# Altium schematic symbol library Fleet-Monitor.SCHLIB: 51 symbols
Pins are listed as number, name and electrical type; pins without a type are passive.

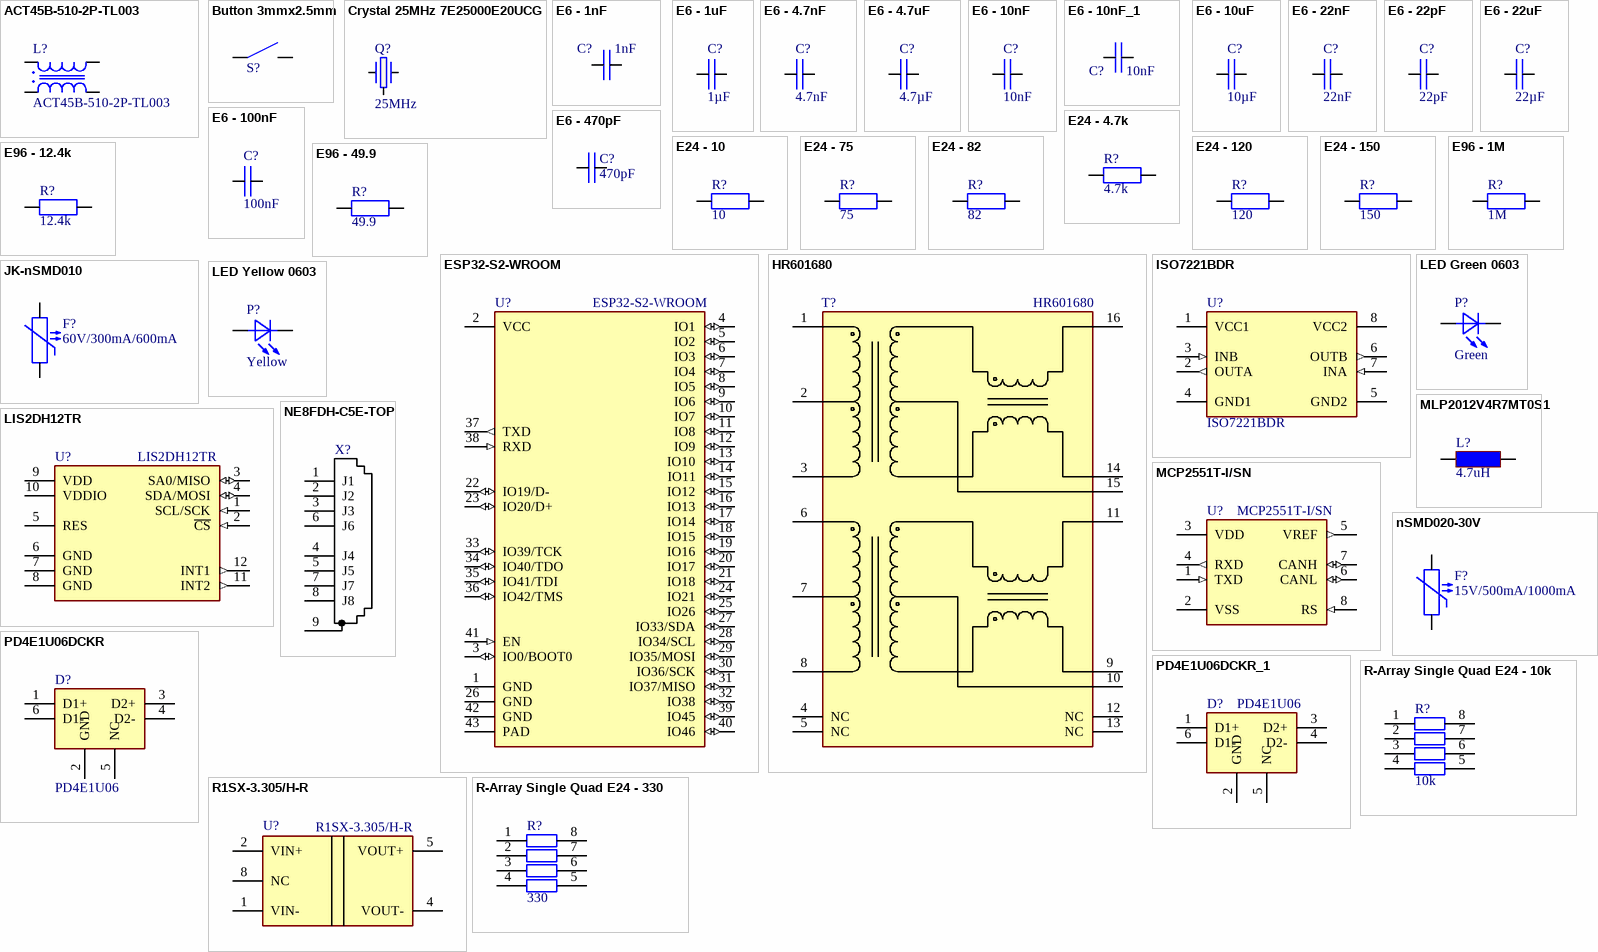
[diagram p0: symbols ACT45B-510-2P-TL003 to R-Array Single Quad E24 - 330]

## ACT45B-510-2P-TL003
designator L?
51uH @ 100kHz 2.8kΩ @ 10MHz 50V 1Ω Signal Line 4532 Common Mode Filters ROHS; Component Value: ACT45B-101-2P-TL003; ComponentLink1Description: Datasheet; ComponentLink1URL: https://datasheet.lcsc.com/lcsc/1811151538_TDK-ACT45B-101-2P-TL003_C88056.pdf; Digikey: 445-3959-1-ND; Farnell: 3407556; JLC-Parts: C88056; Mouser: 810-ACT45B1012PTL003; Unit Price: 0.56; Component Description: Common Mode Filter
footprint SMD Common Mode Choke 4.5x3.2
pins: 1, 2, 3, 4

## Button 3mmx2.5mm
designator S?, comment SMD-Button  (value not drawn)
Button SPST; Component Value: TS-1187A-B-A-B; Component Description: Tactile Switch; Digikey: CKN12221-1-ND; ComponentLink1Description: Datasheet; ComponentLink1URL: https://datasheet.lcsc.com/lcsc/2002271431_XKB-Connectivity-TS-1187A-B-A-B_C318884.pdf; Farnell: 3780596; JLC-Parts: C318884; Mouser: 611-PTS526SK15SMR2L; Unit Price: 0.02
footprint SMD Button 5.2x5.2
pins: 1, 2

## Crystal 25MHz 7E25000E20UCG
designator Q?, comment 25MHz
SMD Crystal Resonators 25MHz 10ppm -40℃~85℃; ComponentLink1Description: Datasheet; ComponentLink1URL: https://datasheet.lcsc.com/lcsc/1810170940_SJK-SHENZHEN-CRYSTAL-TECH-7E25000E20UCG_C252264.pdf; Component Value: 25MHz; Digikey: XC3050CT-ND; Farnell: 3649710; JLC-Parts: C252264; Mouser: 520-250-10-36B-CTNT; Unit Price: 0.14; Component Description: Crystal
footprint SMD Crystal 2520
pins: 1, 2, 3 (power)

## E6 - 1nF
designator C?, comment 1nF
SMD Ceramic Capacitor E6; Component Value: 1nF 3kV; Component Description: Multilayer Ceramic Capacitors MLCC; ComponentLink1Description: Datasheet; ComponentLink1URL: https://datasheet.lcsc.com/lcsc/1912111437_Johanson-Dielectrics-302R29W102KV4E_C173224.pdf; Digikey: 709-1047-1-ND; Farnell: 1886070; JLC-Parts: C173224; Mouser: 605-302R29W102KV4E; Unit Price: 0.06
footprint SMD Keramikkondensator 0402
footprint SMD Keramikkondensator 0603
footprint SMD Keramikkondensator 0805
footprint SMD Keramikkondensator 1206
footprint SMD Keramikkondensator 1210 (Chip Resistor; Body 3.2 x 1.6 mm (LxW typ))
footprint SMD Keramikkondensator 1812
footprint SMD Keramikkondensator 2211
footprint SMD Keramikkondensator 2220
footprint SMD Keramikkondesnator 2220
footprint SMD Keramikkondensator 1808
pins: 1, 2
1 alternate drawing of the same symbol

## E6 - 1uF
designator C?, comment 1µF
SMD Ceramic Capacitor E6; Component Value: 1µF 50V; Component Description: Multilayer Ceramic Capacitors MLCC; ComponentLink1Description: Datasheet; ComponentLink1URL: https://datasheet.lcsc.com/lcsc/1810261812_Samsung-Electro-Mechanics-CL10A105KB8NNNC_C15849.pdf; Digikey: 1276-1860-1-ND; Farnell: 3013383; JLC-Parts: C15849; Mouser: 187-CL10A105KB8NNNC; Unit Price: 0.01
footprint SMD Keramikkondensator 0402
footprint SMD Keramikkondensator 0603
footprint SMD Keramikkondensator 0805
footprint SMD Keramikkondensator 1206
footprint SMD Keramikkondensator 1210 (Chip Resistor; Body 3.2 x 1.6 mm (LxW typ))
footprint SMD Keramikkondensator 1812
footprint SMD Keramikkondensator 2211
footprint SMD Keramikkondensator 2220
footprint SMD Keramikkondesnator 2220
pins: 1, 2
1 alternate drawing of the same symbol

## E6 - 4.7nF
designator C?, comment 4.7nF
SMD Ceramic Capacitor E6; Component Value: 4.7nF 50V; Component Description: Multilayer Ceramic Capacitors MLCC; ComponentLink1Description: Datasheet; ComponentLink1URL: https://datasheet.lcsc.com/lcsc/1811061811_FH-Guangdong-Fenghua-Advanced-Tech-0603B472K500NT_C53987.pdf; Digikey: 478-10355-1-ND; Farnell: 2332650; JLC-Parts: C53987; Mouser: 581-06035C472JAT2A; Unit Price: 0.01
footprint SMD Keramikkondensator 0402
footprint SMD Keramikkondensator 0603
footprint SMD Keramikkondensator 0805
footprint SMD Keramikkondensator 1206
footprint SMD Keramikkondensator 1210 (Chip Resistor; Body 3.2 x 1.6 mm (LxW typ))
footprint SMD Keramikkondensator 1812
footprint SMD Keramikkondensator 2211
footprint SMD Keramikkondensator 2220
footprint SMD Keramikkondesnator 2220
pins: 1, 2
1 alternate drawing of the same symbol

## E6 - 4.7uF
designator C?, comment 4.7µF
SMD Ceramic Capacitor E6; Component Value: 4.7µF 16V; Component Description: Multilayer Ceramic Capacitors MLCC; ComponentLink1Description: Datasheet; ComponentLink1URL: https://datasheet.lcsc.com/lcsc/1810261514_Samsung-Electro-Mechanics-CL10A475KO8NNNC_C19666.pdf; Digikey: 1276-1784-1-ND; Farnell: 3013397; JLC-Parts: C19666; Mouser: 187-CL10A475KO8NNNC; Unit Price: 0.01
footprint SMD Keramikkondensator 0402
footprint SMD Keramikkondensator 0603
footprint SMD Keramikkondensator 0805
footprint SMD Keramikkondensator 1206
footprint SMD Keramikkondensator 1210 (Chip Resistor; Body 3.2 x 1.6 mm (LxW typ))
footprint SMD Keramikkondensator 1812
footprint SMD Keramikkondensator 2211
footprint SMD Keramikkondensator 2220
footprint SMD Keramikkondesnator 2220
pins: 1, 2
1 alternate drawing of the same symbol

## E6 - 10nF
designator C?, comment 10nF
SMD Ceramic Capacitor E6; Component Value: 10nF 50V; Component Description: Multilayer Ceramic Capacitors MLCC; ComponentLink1Description: Datasheet; ComponentLink1URL: https://datasheet.lcsc.com/lcsc/2102081402_FH-Guangdong-Fenghua-Advanced-Tech-0603B103K500NT_C57112.pdf; Digikey: 478-3700-1-ND; Farnell: 1833876; JLC-Parts: C57112; Mouser: 581-06031C103J; Unit Price: 0.01
footprint SMD Keramikkondensator 0402
footprint SMD Keramikkondensator 0603
footprint SMD Keramikkondensator 0805
footprint SMD Keramikkondensator 1206
footprint SMD Keramikkondensator 1210 (Chip Resistor; Body 3.2 x 1.6 mm (LxW typ))
footprint SMD Keramikkondensator 1812
footprint SMD Keramikkondensator 2211
footprint SMD Keramikkondensator 2220
footprint SMD Keramikkondesnator 2220
pins: 1, 2
1 alternate drawing of the same symbol

## E6 - 10nF_1
designator C?, comment 10nF
SMD Ceramic Capacitor E6; Component Value: 10nF 50V; Component Description: Multilayer Ceramic Capacitors MLCC; ComponentLink1Description: Datasheet; ComponentLink1URL: https://datasheet.lcsc.com/lcsc/2102081402_FH-Guangdong-Fenghua-Advanced-Tech-0603B103K500NT_C57112.pdf; Digikey: 478-3700-1-ND; Farnell: 1833876; JLC-Parts: C57112; Mouser: 581-06031C103J; Unit Price: 0.01
footprint SMD Keramikkondensator 0402
footprint SMD Keramikkondensator 0603
footprint SMD Keramikkondensator 0805
footprint SMD Keramikkondensator 1206
footprint SMD Keramikkondensator 1210 (Chip Resistor; Body 3.2 x 1.6 mm (LxW typ))
footprint SMD Keramikkondensator 1812
footprint SMD Keramikkondensator 2211
footprint SMD Keramikkondensator 2220
footprint SMD Keramikkondesnator 2220
pins: 1, 2
1 alternate drawing of the same symbol

## E6 - 10uF
designator C?, comment 10µF
SMD Ceramic Capacitor E6; Component Value: 10µF 50V; Component Description: Multilayer Ceramic Capacitors MLCC; ComponentLink1Description: Datasheet; ComponentLink1URL: https://datasheet.lcsc.com/lcsc/2004251506_Murata-Electronics-GRM21BR61H106KE43L_C440198.pdf; Digikey: 490-18663-1-ND; Farnell: 3790440; JLC-Parts: C440198; Mouser: 81-GRM21BR61H106KE3L; Unit Price: 0.13
footprint SMD Keramikkondensator 0402
footprint SMD Keramikkondensator 0603
footprint SMD Keramikkondensator 0805
footprint SMD Keramikkondensator 1206
footprint SMD Keramikkondensator 1210 (Chip Resistor; Body 3.2 x 1.6 mm (LxW typ))
footprint SMD Keramikkondensator 1812
footprint SMD Keramikkondensator 2211
footprint SMD Keramikkondensator 2220
footprint SMD Keramikkondesnator 2220
pins: 1, 2
1 alternate drawing of the same symbol

## E6 - 22nF
designator C?, comment 22nF
SMD Ceramic Capacitor E6; Component Value: 22nF 50V; Component Description: Multilayer Ceramic Capacitors MLCC; ComponentLink1Description: Datasheet; ComponentLink1URL: https://datasheet.lcsc.com/lcsc/1811101610_Samsung-Electro-Mechanics-CL10B223KB8NNNC_C21122.pdf; Digikey: 1276-1104-1-ND; Farnell: 3013425; JLC-Parts: C21122; Mouser: 187-CL10B223KB8NNNC; Unit Price: 0.01
footprint SMD Keramikkondensator 0402
footprint SMD Keramikkondensator 0603
footprint SMD Keramikkondensator 0805
footprint SMD Keramikkondensator 1206
footprint SMD Keramikkondensator 1210 (Chip Resistor; Body 3.2 x 1.6 mm (LxW typ))
footprint SMD Keramikkondensator 1812
footprint SMD Keramikkondensator 2211
footprint SMD Keramikkondensator 2220
footprint SMD Keramikkondesnator 2220
pins: 1, 2
1 alternate drawing of the same symbol

## E6 - 22pF
designator C?, comment 22pF
SMD Ceramic Capacitor E6; Component Value: 22pF 50V; Component Description: Multilayer Ceramic Capacitors MLCC; ComponentLink1Description: Datasheet; ComponentLink1URL: https://datasheet.lcsc.com/lcsc/1810121815_Samsung-Electro-Mechanics-CL10C220JB8NNNC_C1653.pdf; Digikey: 1276-1023-1-ND; Farnell: 2332643; JLC-Parts: C1653; Mouser: 187-CL10C220JB8NNNC; Unit Price: 0.01
footprint SMD Keramikkondensator 0402
footprint SMD Keramikkondensator 0603
footprint SMD Keramikkondensator 0805
footprint SMD Keramikkondensator 1206
footprint SMD Keramikkondensator 1210 (Chip Resistor; Body 3.2 x 1.6 mm (LxW typ))
footprint SMD Keramikkondensator 1812
footprint SMD Keramikkondensator 2211
footprint SMD Keramikkondensator 2220
footprint SMD Keramikkondesnator 2220
pins: 1, 2
1 alternate drawing of the same symbol

## E6 - 22uF
designator C?, comment 22µF
SMD Ceramic Capacitor E6; Component Value: 22µF 25V; Component Description: Multilayer Ceramic Capacitors MLCC; ComponentLink1Description: Datasheet; ComponentLink1URL: https://datasheet.lcsc.com/lcsc/1811151152_Samsung-Electro-Mechanics-CL21A226MAQNNNE_C45783.pdf; Digikey: 1276-2908-1-ND; Farnell: 3013459; JLC-Parts: C45783; Mouser: 187-CL21A226MAQNNNE; Unit Price: 0.04
footprint SMD Keramikkondensator 0402
footprint SMD Keramikkondensator 0603
footprint SMD Keramikkondensator 0805
footprint SMD Keramikkondensator 1206
footprint SMD Keramikkondensator 1210 (Chip Resistor; Body 3.2 x 1.6 mm (LxW typ))
footprint SMD Keramikkondensator 1812
footprint SMD Keramikkondensator 2211
footprint SMD Keramikkondensator 2220
footprint SMD Keramikkondesnator 2220
pins: 1, 2
1 alternate drawing of the same symbol

## E6 - 100nF
designator C?, comment 100nF
SMD Ceramic Capacitor E6; Component Value: 100nF 50V; Component Description: Multilayer Ceramic Capacitors MLCC; ComponentLink1Description: Datasheet; ComponentLink1URL: https://datasheet.lcsc.com/lcsc/1809301912_YAGEO-CC0603KRX7R9BB104_C14663.pdf; Digikey: 445-6899-1-ND; Farnell: 2210822; JLC-Parts: C14663; Mouser: 810-CGA2B3X7R1H104K; Unit Price: 0.01
footprint SMD Keramikkondensator 0402
footprint SMD Keramikkondensator 0603
footprint SMD Keramikkondensator 0805
footprint SMD Keramikkondensator 1206
footprint SMD Keramikkondensator 1210 (Chip Resistor; Body 3.2 x 1.6 mm (LxW typ))
footprint SMD Keramikkondensator 1812
footprint SMD Keramikkondensator 2211
footprint SMD Keramikkondensator 2220
footprint SMD Keramikkondesnator 2220
pins: 1, 2
1 alternate drawing of the same symbol

## E6 - 470pF
designator C?, comment 470pF
SMD Ceramic Capacitor E6; Component Value: 470pF 3kV; Component Description: Multilayer Ceramic Capacitors MLCC; ComponentLink1Description: Datasheet; ComponentLink1URL: https://datasheet.lcsc.com/lcsc/1810201242_IHHEC-HOLY-STONE-ENTERPRISE-CO.,-LTD-C1808X471K302T_C106130.pdf; Digikey: 732-12100-1-ND; Farnell: 2812607; JLC-Parts: C106130; Mouser: 710-885342210003; Unit Price: 0.11
footprint SMD Keramikkondensator 0402
footprint SMD Keramikkondensator 0603
footprint SMD Keramikkondensator 0805
footprint SMD Keramikkondensator 1206
footprint SMD Keramikkondensator 1210 (Chip Resistor; Body 3.2 x 1.6 mm (LxW typ))
footprint SMD Keramikkondensator 1812
footprint SMD Keramikkondensator 2211
footprint SMD Keramikkondensator 2220
footprint SMD Keramikkondesnator 2220
footprint SMD Keramikkondensator 1808
pins: 1, 2
1 alternate drawing of the same symbol

## E24 - 4.7k
designator R?, comment 4.7k
SMD Chip Resistor E24; Component Value: 4.7k (75V, 100mW, 1%); ComponentLink1Description: Datasheet; ComponentLink1URL: https://datasheet.lcsc.com/lcsc/1810200710_UNI-ROYAL-Uniroyal-Elec-0603WAF4701T5E_C23162.pdf; Digikey: P4.70KHCT-ND; Farnell: 2303181; JLC-Parts: C23162; Mouser: 667-ERJ-3EKF4701V; Unit Price: 0.01; Component Description: Chip Resistor
footprint SMD Widerstand 0402
footprint SMD Widerstand 0603
footprint SMD Widerstand 0805
footprint SMD Widerstand 1206
pins: 1, 2
1 alternate drawing of the same symbol

## E24 - 10
designator R?, comment 10
SMD Chip Resistor E24; Component Value: 10 (75V, 100mW, 1%); ComponentLink1Description: Datasheet; ComponentLink1URL: https://datasheet.lcsc.com/lcsc/1810200710_UNI-ROYAL-Uniroyal-Elec-0603WAF4701T5E_C23162.pdf; Digikey: P10.0HCT-ND; Farnell: 2302958; JLC-Parts: C22859; Mouser: 667-ERJ-3EKF10R0V; Unit Price: 0.01; Component Description: Chip Resistor
footprint SMD Widerstand 0402
footprint SMD Widerstand 0603
footprint SMD Widerstand 0805
footprint SMD Widerstand 1206
pins: 1, 2
1 alternate drawing of the same symbol

## E24 - 75
designator R?, comment 75
SMD Chip Resistor E24; Component Value: 75 (75V, 100mW, 1%); ComponentLink1Description: Datasheet; ComponentLink1URL: https://datasheet.lcsc.com/lcsc/1810200710_UNI-ROYAL-Uniroyal-Elec-0603WAF4701T5E_C23162.pdf; Digikey: P75.0HCT-ND; Farnell: 2059282; JLC-Parts: C4275; Mouser: 667-ERJ-3EKF75R0V; Unit Price: 0.01; Component Description: Chip Resistor
footprint SMD Widerstand 0402
footprint SMD Widerstand 0603
footprint SMD Widerstand 0805
footprint SMD Widerstand 1206
pins: 1, 2
1 alternate drawing of the same symbol

## E24 - 82
designator R?, comment 82
SMD Chip Resistor E24; Component Value: 82 (75V, 100mW, 1%); ComponentLink1Description: Datasheet; ComponentLink1URL: https://datasheet.lcsc.com/lcsc/1810200710_UNI-ROYAL-Uniroyal-Elec-0603WAF4701T5E_C23162.pdf; Digikey: P82.0HCT-ND; Farnell: 2303052; JLC-Parts: C23255; Mouser: 667-ERJ-3EKF82R0V; Unit Price: 0.01; Component Description: Chip Resistor
footprint SMD Widerstand 0402
footprint SMD Widerstand 0603
footprint SMD Widerstand 0805
footprint SMD Widerstand 1206
pins: 1, 2
1 alternate drawing of the same symbol

## E24 - 120
designator R?, comment 120
SMD Chip Resistor E24; Component Value: 120 (75V, 100mW, 1%); ComponentLink1Description: Datasheet; ComponentLink1URL: https://datasheet.lcsc.com/lcsc/1810200710_UNI-ROYAL-Uniroyal-Elec-0603WAF4701T5E_C23162.pdf; Digikey: P120HCT-ND; Farnell: 2303067; JLC-Parts: C22787; Mouser: 667-ERJ-3EKF1200V; Unit Price: 0.01; Component Description: Chip Resistor
footprint SMD Widerstand 0402
footprint SMD Widerstand 0603
footprint SMD Widerstand 0805
footprint SMD Widerstand 1206
pins: 1, 2
1 alternate drawing of the same symbol

## E24 - 150
designator R?, comment 150
SMD Chip Resistor E24; Component Value: 150 (75V, 100mW, 1%); ComponentLink1Description: Datasheet; ComponentLink1URL: https://datasheet.lcsc.com/lcsc/1810200710_UNI-ROYAL-Uniroyal-Elec-0603WAF4701T5E_C23162.pdf; Digikey: P150HCT-ND; Farnell: 2303076; JLC-Parts: C22808; Mouser: 667-ERJ-3EKF1500V; Unit Price: 0.01; Component Description: Chip Resistor
footprint SMD Widerstand 0402
footprint SMD Widerstand 0603
footprint SMD Widerstand 0805
footprint SMD Widerstand 1206
pins: 1, 2
1 alternate drawing of the same symbol

## E96 - 1M
designator R?, comment 1M
SMD Chip Resistor E24; Component Value: 1M (75V, 100mW, 1%); ComponentLink1Description: Datasheet; ComponentLink1URL: https://datasheet.lcsc.com/lcsc/1810200710_UNI-ROYAL-Uniroyal-Elec-0603WAF4701T5E_C23162.pdf; Digikey: P1.00MHCT-ND; Farnell: 2303325; JLC-Parts: C22935; Mouser: 667-ERJ-3EKF1004V; Unit Price: 0.01; Component Description: Chip Resistor
footprint SMD Widerstand 0402
footprint SMD Widerstand 0603
footprint SMD Widerstand 0805
footprint SMD Widerstand 1206
pins: 1, 2
1 alternate drawing of the same symbol

## E96 - 12.4k
designator R?, comment 12.4k
SMD Chip Resistor E96; Component Value: 12.4k (75V, 100mW, 1%); ComponentLink1Description: Datasheet; ComponentLink1URL: https://datasheet.lcsc.com/lcsc/1810170234_PANASONIC-ERJ3EKF1242V_C194071.pdf; Digikey: P12.4KHCT-ND; Farnell: 2059414; JLC-Parts: C194071; Mouser: 667-ERJ-3EKF1242V; Unit Price: 0.01; Component Description: Chip Resistor
footprint SMD Widerstand 0402
footprint SMD Widerstand 0603
footprint SMD Widerstand 0805
footprint SMD Widerstand 1206
pins: 1, 2
1 alternate drawing of the same symbol

## E96 - 49.9
designator R?, comment 49.9
SMD Chip Resistor E96; Component Value: 49.9 (75V, 100mW, 1%); ComponentLink1Description: Datasheet; ComponentLink1URL: https://datasheet.lcsc.com/lcsc/1810200710_UNI-ROYAL-Uniroyal-Elec-0603WAF4701T5E_C23162.pdf; Digikey: P49.9HCT-ND; Farnell: 2059274; JLC-Parts: C23184; Mouser: 667-ERJ-3EKF49R9V; Unit Price: 0.01; Component Description: Chip Resistor
footprint SMD Widerstand 0402
footprint SMD Widerstand 0603
footprint SMD Widerstand 0805
footprint SMD Widerstand 1206
pins: 1, 2
1 alternate drawing of the same symbol

## ESP32-S2-WROOM
designator U?
WiFi 802.11b/g/n Transceiver Module 2.4GHz Antenna, I-PEX Surface Mount; Component Description: Xtensa single-core 32-bit LX7 MCU; ComponentLink1Description: Datasheet; ComponentLink1URL: https://www.espressif.com/sites/default/files/documentation/esp32-s2-wroom_esp32-s2-wroom-i_datasheet_en.pdf; Digikey: 1965-ESP32-S2-WROOMTR-ND; Component Value: ESP32-S2-WROOM; JLC-Parts: C967026; Mouser: 356-ESP32S2WRMI320UH; Unit Price: 2.54
footprint SMD ESP32-S2-WROOM
pins: 1 GND, 2 VCC, 3 IO0/BOOT0 (io), 4 IO1 (io), 5 IO2 (io), 6 IO3 (io), 7 IO4 (io), 8 IO5 (io), 9 IO6 (io), 10 IO7 (io), 11 IO8 (io), 12 IO9 (io), 13 IO10 (io), 14 IO11 (io), 15 IO12 (io), 16 IO13 (io), 17 IO14 (io), 18 IO15 (io), 19 IO16 (io), 20 IO17 (io), 21 IO18 (io), 22 IO19/D- (io), 23 IO20/D+ (io), 24 IO21 (io), 25 IO26 (io), 26 GND, 27 IO33/SDA (io), 28 IO34/SCL (io), 29 IO35/MOSI (io), 30 IO36/SCK (io), 31 IO37/MISO (io), 32 IO38 (io), 33 IO39/TCK (io), 34 IO40/TDO (io), 35 IO41/TDI (io), 36 IO42/TMS (io), 37 TXD (out), 38 RXD (in), 39 IO45 (io), 40 IO46 (io), 41 EN (in), 42 GND, 43 PAD

## HR601680
designator T?
LAN 10/100 Base-T Pulse Transformer 1CT:1CT Transmitter, 1CT:1CT Receiver Surface Mount; Component Description: RJ45 Transformer; ComponentLink1Description: Datasheet; ComponentLink1URL: https://datasheet.lcsc.com/lcsc/1810041709_HANRUN-Zhongshan-HanRun-Elec-HR601680_C172799.pdf; Component Value: HR601680; Digikey: SM13072APELCT-ND; Farnell: 2673883; JLC-Parts: C172799; Mouser: 652-SM13072APEL; Unit Price: 0.57
footprint SMD Transformer 500x375
pins: 1 TD+, 2 CT, 3 TD-, 4 NC, 5 NC, 6 RD+, 7 CT, 8 RD-, 9 RX-, 10 NC, 11 RX+, 12 NC, 13 NC, 14 TX-, 15 NC, 16 TX+

## ISO7221BDR
designator U?
General Purpose Digital Isolator 2500Vrms 2 Channel 5Mbps 25kV/µs CMTI 8-SOIC (0.154", 3.90mm Width); Component Description: Unidirectional Digital Isolator; ComponentLink1Description: Datasheet; ComponentLink1URL: https://www.ti.com/lit/ds/symlink/iso7220a.pdf?HQS=dis-dk-null-digikeymode-dsf-pf-null-wwe&ts=1633476815997; Digikey: 296-38965-2-ND; Component Value: ISO7221BDR; JLC-Parts: C138522; Mouser: 595-ISO7221BDR; Unit Price: 2.94
footprint SMD IC SOIC-8
pins: 1 VCC1, 2 OUTA (out), 3 INB (in), 4 GND1, 5 GND2, 6 OUTB (out), 7 INA (in), 8 VCC2

## JK-nSMD010
designator F?, comment 60V/300mA/600mA
60V 250mA 1s 1206 Resettable Fuses; Component Value: 60V/300mA/600mA/100ms; Component Description: PTC Resettable Fuse; ComponentLink1Description: Datasheet; ComponentLink1URL: https://datasheet.lcsc.com/lcsc/1809211319_RUILON-Shenzhen-Ruilongyuan-Elec-SMD1812P030TF-60V_C117855.pdf; Digikey: F8131CT-ND; Farnell: 1961501; JLC-Parts: C117855; Mouser: 576-1812L035/60MR; Unit Price: 0.07
footprint SMD PPTC-Fuse 1206
footprint SMD PPTC-Fuse 1812
pins: 1, 2

## LED Green 0603
designator P?, comment Green
General Purpose LED; Component Value: Green (5mA, 2.4V); Digikey: 350-2035-1-ND; Farnell: 1465991; Mouser: 645-598-8070-107F; Unit Price: 0.34; ComponentLink1Description: Datasheet; ComponentLink1URL: https://datasheet.lcsc.com/szlcsc/Everlight-Elec-19-217-GHC-YR1S2-3T_C72043.pdf; JLC-Parts: C72043; Component Description: General Purpose LED
footprint SMD LED 0603 (SMD_LED_RED)
pins: A, K

## LED Yellow 0603
designator P?, comment Yellow
General Purpose LED; Component Value: Yellow (5mA, 2.0V); Digikey: 350-2032-1-ND; Farnell: 1465989; Mouser: 645-598-8040-107F; Unit Price: 0.34; ComponentLink1Description: Datasheet; ComponentLink1URL: https://datasheet.lcsc.com/szlcsc/Everlight-Elec-19-217-GHC-YR1S2-3T_C72043.pdf; JLC-Parts: C72038; Component Description: General Purpose LED
footprint SMD LED 0603 (SMD_LED_RED)
pins: A, K

## LIS2DH12TR
designator U?
Accelerometer X, Y, Z Axis ±2g, 4g, 8g, 16g 0.5Hz ~ 672Hz 12-LGA (2x2); Component Description: High-Performance 3-Xxis Accelerometer; ComponentLink1Description: Datasheet; ComponentLink1URL: https://www.st.com/content/ccc/resource/technical/document/datasheet/12/c0/5c/36/b9/58/46/f2/DM00091513.pdf/files/DM00091513.pdf/jcr:content/translations/en.DM00091513.pdf; Digikey: 497-14851-2-ND; Component Value: LIS2DH12TR; JLC-Parts: C110926; Mouser: 511-LIS2DH12TR; Unit Price: 0.87
footprint SMD IC LGA-12
pins: 1 SCL/SCK (in), 2 ~{CS} (in), 3 SA0/MISO (io), 4 SDA/MOSI (io), 5 RES, 6 GND, 7 GND, 8 GND, 9 VDD, 10 VDDIO, 11 INT2 (out), 12 INT1 (out)

## MCP2551T-I/SN
designator U?
High-Speed CAN Transceiver; Component Description: CAN Transceiver 1Mbps; Digikey: MCP2551T-I/SNTR-ND; ComponentLink1Description: Datasheet; ComponentLink1URL: https://ww1.microchip.com/downloads/en/DeviceDoc/20001667G.pdf; Component Value: MCP2551T-I/SN; Farnell: 2763381; JLC-Parts: C49558; Mouser: 579-MCP2551T-I/SN; Unit Price: 1.04
footprint SMD IC SOIC-8
pins: 1 TXD (in), 2 VSS, 3 VDD, 4 RXD (out), 5 VREF (out), 6 CANL (io), 7 CANH (io), 8 RS (in)

## MLP2012V4R7MT0S1
designator L?, comment 4.7uH
0805 Inductor 4.7uH; Component Description: Power Inductor; ComponentLink1Description: Datasheet; ComponentLink1URL: https://datasheet.lcsc.com/lcsc/1810241416_Murata-Electronics-LQM2MPN4R7MG0L_C86094.pdf; Component Value: 4.7uH; Digikey: 490-12073-1-ND; Farnell: 2840129; JLC-Parts: C86094; Mouser: 81-LQM2MPN4R7MG0L; Unit Price: 0.09
footprint SMD INDUCTOR/FERRITE 0805
pins: 1, 2

## NE8FDH-C5E-TOP
designator X?  (value not drawn)
RJ45 etherCON IP65; Component Value: NE8FDH-C5E-TOP; Farnell: 3014323; Mouser: 568-NE8FDH-C5E-TOP; Unit Price: 12.83; ComponentLink1Description: Datasheet; ComponentLink1URL: https://www.mouser.ch/datasheet/2/289/ne8fdh_c5e_top-1853139.pdf; Component Description: RJ45 etherCON IP65
footprint THT Connector NE8FDH-C5E-TOP
pins: 1, 2, 3, 4, 5, 6, 7, 8, 9
text: J1; J2; J3; J6; J4; J5; J7; J8

## nSMD020-30V
designator F?, comment 15V/500mA/1000mA
30V 460mA 1206 Resettable Fuses; Component Value: 15V/500mA/1000mA/100ms; Component Description: PTC Resettable Fuse; ComponentLink1Description: Datasheet; ComponentLink1URL: https://datasheet.lcsc.com/lcsc/1912111437_Littelfuse-1206L050-15YR-A_C315893.pdf; Digikey: F3733CT-ND; Farnell: 2752736; JLC-Parts: C315893; Mouser: 576-1206L050/15YR; Unit Price: 0.23
footprint SMD PPTC-Fuse 1206
pins: 1, 2

## PD4E1U06DCKR
designator D?, comment PD4E1U06
Unidirectional 3A (8/20us) 15V (Typ) 6.5V 5.5V (Max) SOT-363 ESD Protection Devices ROHS; Component Description: ESD Suppressor; ComponentLink1Description: Datasheet; ComponentLink1URL: https://datasheet.lcsc.com/lcsc/1810172210_Texas-Instruments-TPD4E1U06DCKR_C194628.pdf; Component Value: PD4E1U06; Digikey: 296-39347-1-ND; Farnell: 3116516; JLC-Parts: C194628; Mouser: 595-TPD4E1U06DCKR; Unit Price: 0.12
footprint SMD IC SOT-363 (SC-70-6)
pins: 1 D1+, 2 GND, 3 D2+, 4 D2-, 5 NC, 6 D1-

## PD4E1U06DCKR_1
designator D?, comment PD4E1U06
Unidirectional 3A (8/20us) 15V (Typ) 6.5V 5.5V (Max) SOT-363 ESD Protection Devices ROHS; Component Description: ESD Suppressor; ComponentLink1Description: Datasheet; ComponentLink1URL: https://datasheet.lcsc.com/lcsc/1810172210_Texas-Instruments-TPD4E1U06DCKR_C194628.pdf; Component Value: PD4E1U06; Digikey: 296-39347-1-ND; Farnell: 3116516; JLC-Parts: C194628; Mouser: 595-TPD4E1U06DCKR; Unit Price: 0.12
footprint SMD IC SOT-363 (SC-70-6)
pins: 1 D1+, 2 GND, 3 D2+, 4 D2-, 5 NC, 6 D1-

## R1SX-3.305/H-R
designator U?
Isolated Module DC DC Converter 1 Output 5V - - - 200mA 2.97V - 3.63V Input; Component Description: Isolated DC-DC-Converter; ComponentLink1Description: Datasheet; ComponentLink1URL: https://recom-power.com/pdf/Econoline/R1SX.pdf; Digikey: 945-3197-1-ND; Component Value: R1SX-3.305/H-R; Mouser: 919-R1SX-3.305/H-R; Unit Price: 3.94
footprint SMD DCDC R1SX
pins: 1 VIN-, 2 VIN+, 4 VOUT-, 5 VOUT+, 8 NC

## R-Array Single Quad E24 - 10k
designator R?, comment 10k
Isolated Resistor Array; Component Value: 10k (4x, 50V, 62.5mW, 5%); ComponentLink1Description: Datasheet; ComponentLink1URL: https://datasheet.lcsc.com/lcsc/1810191515_UNI-ROYAL-Uniroyal-Elec-4D03WGJ0103T5E_C29718.pdf; Digikey: Y4103CT-ND; Farnell: 2060167; JLC-Parts: C29718; Mouser: 667-EXB-V8V103JV; Unit Price: 0.01; Component Description: Isolated Resistor Array
footprint SMD Widerstand Array 4-Fach 0603
pins: 1, 2, 3, 4, 5, 6, 7, 8

## R-Array Single Quad E24 - 330
designator R?, comment 330
Isolated Resistor Array; Component Value: 330 (4x, 50V, 62.5mW, 5%); ComponentLink1Description: Datasheet; ComponentLink1URL: https://datasheet.lcsc.com/lcsc/1810170717_UNI-ROYAL-Uniroyal-Elec-4D03WGJ0331T5E_C12018.pdf; Digikey: Y4331CT-ND; Farnell: 2060160; JLC-Parts: C12018; Mouser: 667-EXB-V8V331JV; Unit Price: 0.01; Component Description: Isolated Resistor Array
footprint SMD Widerstand Array 4-Fach 0603
pins: 1, 2, 3, 4, 5, 6, 7, 8

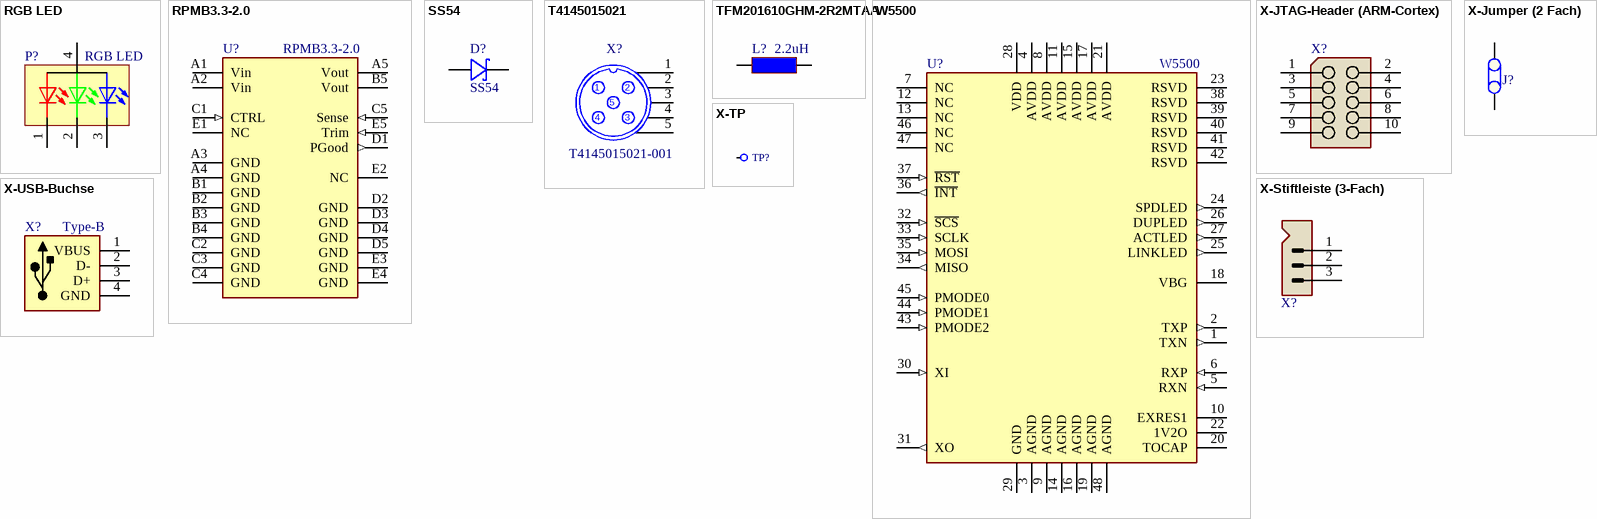
[diagram p1: symbols RGB LED to X-USB-Buchse]

## RGB LED
designator P?
Component Value: 67-23/R6GHBHC-B01/2T; ComponentLink1Description: Datasheet; ComponentLink1URL: https://datasheet.lcsc.com/lcsc/2104061938_Everlight-Elec-67-23-R6GHBHC-B01-2T_C264607.pdf; Digikey: VAOS-SP4RGB4CT-ND; JLC-Parts: C264607; Mouser: 593-VAOS-SP4RGB4; Unit Price: 0.19; Component Description: RGB LED
footprint SMD LED PLCC-4 (SMD_LED_RED)
pins: 1, 2, 3, 4

## RPMB3.3-2.0
designator U?
Non-Isolated PoL Module DC DC Converter 1 Output 3.3V    2A 4V - 36V Input; Component Value: RPMB3.3-3.0; Component Description: DC-DC Stepdown Converter; ComponentLink1Description: Datasheet; ComponentLink1URL: https://recom-power.com/pdf/Innoline/RPMB-2.0.pdf; Digikey: 945-RPMB3.3-3.0CT-ND; Farnell: 3551809; Mouser: 919-RPMB3.3-3.0; Unit Price: 7.43
footprint SMD DCDC RPM 2.0
pins: A1 Vin, A2 Vin, A3 GND, A4 GND, A5 Vout, B1 GND, B2 GND, B3 GND, B4 GND, B5 Vout, C1 CTRL (in), C2 GND, C3 GND, C4 GND, C5 Sense (in), D1 PGood (out), D2 GND, D3 GND, D4 GND, D5 GND, E1 NC, E2 NC, E3 GND, E4 GND, E5 Trim (in)

## SS54
designator D?
40V 5A 550mV @ 5A SMA(DO-214AC) Schottky Barrier Diodes (SBD) ROHS; ComponentLink1Description: Datasheet; ComponentLink1URL: https://datasheet.lcsc.com/lcsc/1810192041_MDD%EF%BC%88Microdiode-Electronics%EF%BC%89-SS54_C22452.pdf; Component Value: SS54; Digikey: 641-SS54-HFCT-ND; Farnell: 1861427; JLC-Parts: C22452; Mouser: 750-SS54-HF; Unit Price: 0.10; Component Description: Schottky Barrier Diode
footprint SMD Diode DO-214-AC (SM LED; 2 Flat Leads)
pins: A, K

## T4145015021
designator X?, comment T4145015021-001
M12 Receptacle Connector PCB Assembly; ComponentLink1Description: Datasheet; ComponentLink1URL: https://www.te.com/commerce/DocumentDelivery/DDEController?Action=srchrtrv&DocNm=T41450150X1001&DocType=Customer+Drawing&DocLang=English; Component Value: T4145015021-001; Digikey: A126521-ND; Unit Price: 6.97; Component Description: M12 Receptacle Connector PCB Assembly
footprint THT Connector M12
pins: 1, 2, 3, 4, 5

## TFM201610GHM-2R2MTAA
designator L?, comment 2.2uH
Ferrite Bead 2.2uH 2.6A / 142mOhm; Component Description: Power Inductor; ComponentLink1Description: Datasheet; ComponentLink1URL: https://datasheet.lcsc.com/lcsc/1810061613_TDK-TFM201610GHM-2R2MTAA_C136243.pdf; Component Value: 2.2uH; Digikey: 445-173104-1-ND; Farnell: 2470314; JLC-Parts: C136243; Mouser: 810-TFM201610GHM2R2A; Unit Price: 0.13
footprint SMD INDUCTOR/FERRITE 0805
pins: 1, 2

## W5500
designator U?
Ethernet Controller 10/100 Base-T/TX PHY SPI Interface 48-LQFP (7x7); ComponentLink1Description: Datasheet; ComponentLink1URL: http://wizwiki.net/wiki/lib/exe/fetch.php?media=products:w5500:w5500_ds_v108e.pdf; Digikey: 1278-W5500TR-ND; Component Value: W5500; JLC-Parts: C32843; Mouser: 950-W5500; Unit Price: 3.76; Component Description: Ethernet Controller
footprint SMD IC LQFP-48
pins: 1 TXN (out), 2 TXP (out), 3 AGND (power), 4 AVDD (power), 5 RXN (in), 6 RXP (in), 7 NC, 8 AVDD (power), 9 AGND (power), 10 EXRES1, 11 AVDD (power), 12 NC, 13 NC, 14 AGND (power), 15 AVDD (power), 16 AGND (power), 17 AVDD (power), 18 VBG, 19 AGND (power), 20 TOCAP (power), 21 AVDD (power), 22 1V2O (power), 23 RSVD, 24 SPDLED (out), 25 LINKLED (out), 26 DUPLED (out), 27 ACTLED (out), 28 VDD (power), 29 GND (power), 30 XI (in), 31 XO (out), 32 ~{SCS} (in), 33 SCLK (in), 34 MISO (out), 35 MOSI (in), 36 ~{INT} (out), 37 ~{RST} (in), 38 RSVD, 39 RSVD, 40 RSVD, 41 RSVD, 42 RSVD, 43 PMODE2 (in), 44 PMODE1 (in), 45 PMODE0 (in), 46 NC, 47 NC, 48 AGND (power)

## X-JTAG-Header (ARM-Cortex)
designator X?, comment JTAG-Header (ARM-Cortex)  (value not drawn)
Component Value: SHF-105-01-L-D-SM (2x5); Digikey: SAM10710-ND; Farnell: 1885915; Mouser: 200-SHF10501LDSM; Unit Price: 2.89; ComponentLink1Description: Datasheet; ComponentLink1URL: https://datasheet.lcsc.com/lcsc/1810170717_UNI-ROYAL-Uniroyal-Elec-4D03WGJ0331T5E_C12018.pdf; Component Description: JTAG-Header (ARM-Cortex)
footprint SMD Connector 1.27mm (2x5)
pins: 1, 2, 3, 4, 5, 6, 7, 8, 9, 10

## X-Jumper (2 Fach)
designator J?  (value not drawn)
Component Value: 2-Pol; Component Description: Through Hole Jumper; Digikey: WM50016-02-ND; Farnell: 2668454; Mouser: 538-22-28-4023; Unit Price: 0.01; ComponentLink1Description: Datasheet; ComponentLink1URL: https://datasheet.lcsc.com/lcsc/1912111437_PINREX-210-91-02GB01_C390678.pdf; JLC-Parts: C390678
footprint SMD Solder Jumper 1x2mm (SOT-223/SC-73; 4 Leads; Body 6.7 x 7.3 mm, inc. leads (LxW max))
footprint THT  Jumper
pins: 1, 2

## X-Stiftleiste (3-Fach)
designator X?, comment Pin Header Through Hole Wire To Board  (value not drawn)
Component Value: 436500315; Digikey: WM1918-ND; Farnell: 1654451; Mouser: 538-43650-0315; Unit Price: 0.38; ComponentLink1Description: Datasheet; ComponentLink1URL: https://datasheet.lcsc.com/lcsc/1912111437_MOLEX-436500315_C293546.pdf; JLC-Parts: C293546; Component Description: Pin Header Through Hole Wire To Board
footprint THT Connector 0436500315
pins: 1, 2, 3 1

## X-TP
designator TP?  (value not drawn)  (no BOM)
Testpunkt; Component Value: Ø 0.8mm; Component Description: Testpoint; Unit Price: 0.00
footprint SMD Testpunkt Ø1mm
pins: 1

## X-USB-Buchse
designator X?, comment Type-B
Typ-B; Component Value: MUSBD111M5; Component Description: USB-Buchse; Digikey: MUSBD111M5-ND; Farnell: 3728524; Mouser: 523-MUSBD111M5; Unit Price: 11.17; ComponentLink1Description: Datasheet; ComponentLink1URL: https://www.amphenol-icc.com/media/wysiwyg/files/drawing/musbd111xx.pdf
footprint THT Connector MUSBD111M5
pins: 1 VBUS, 2 D-, 3 D+, 4 GND